# Altium integrated library Infineon_Power_Smart_Low-Side_&_High-Side_Switches.IntLib: 238 symbols (part 12 of 14)
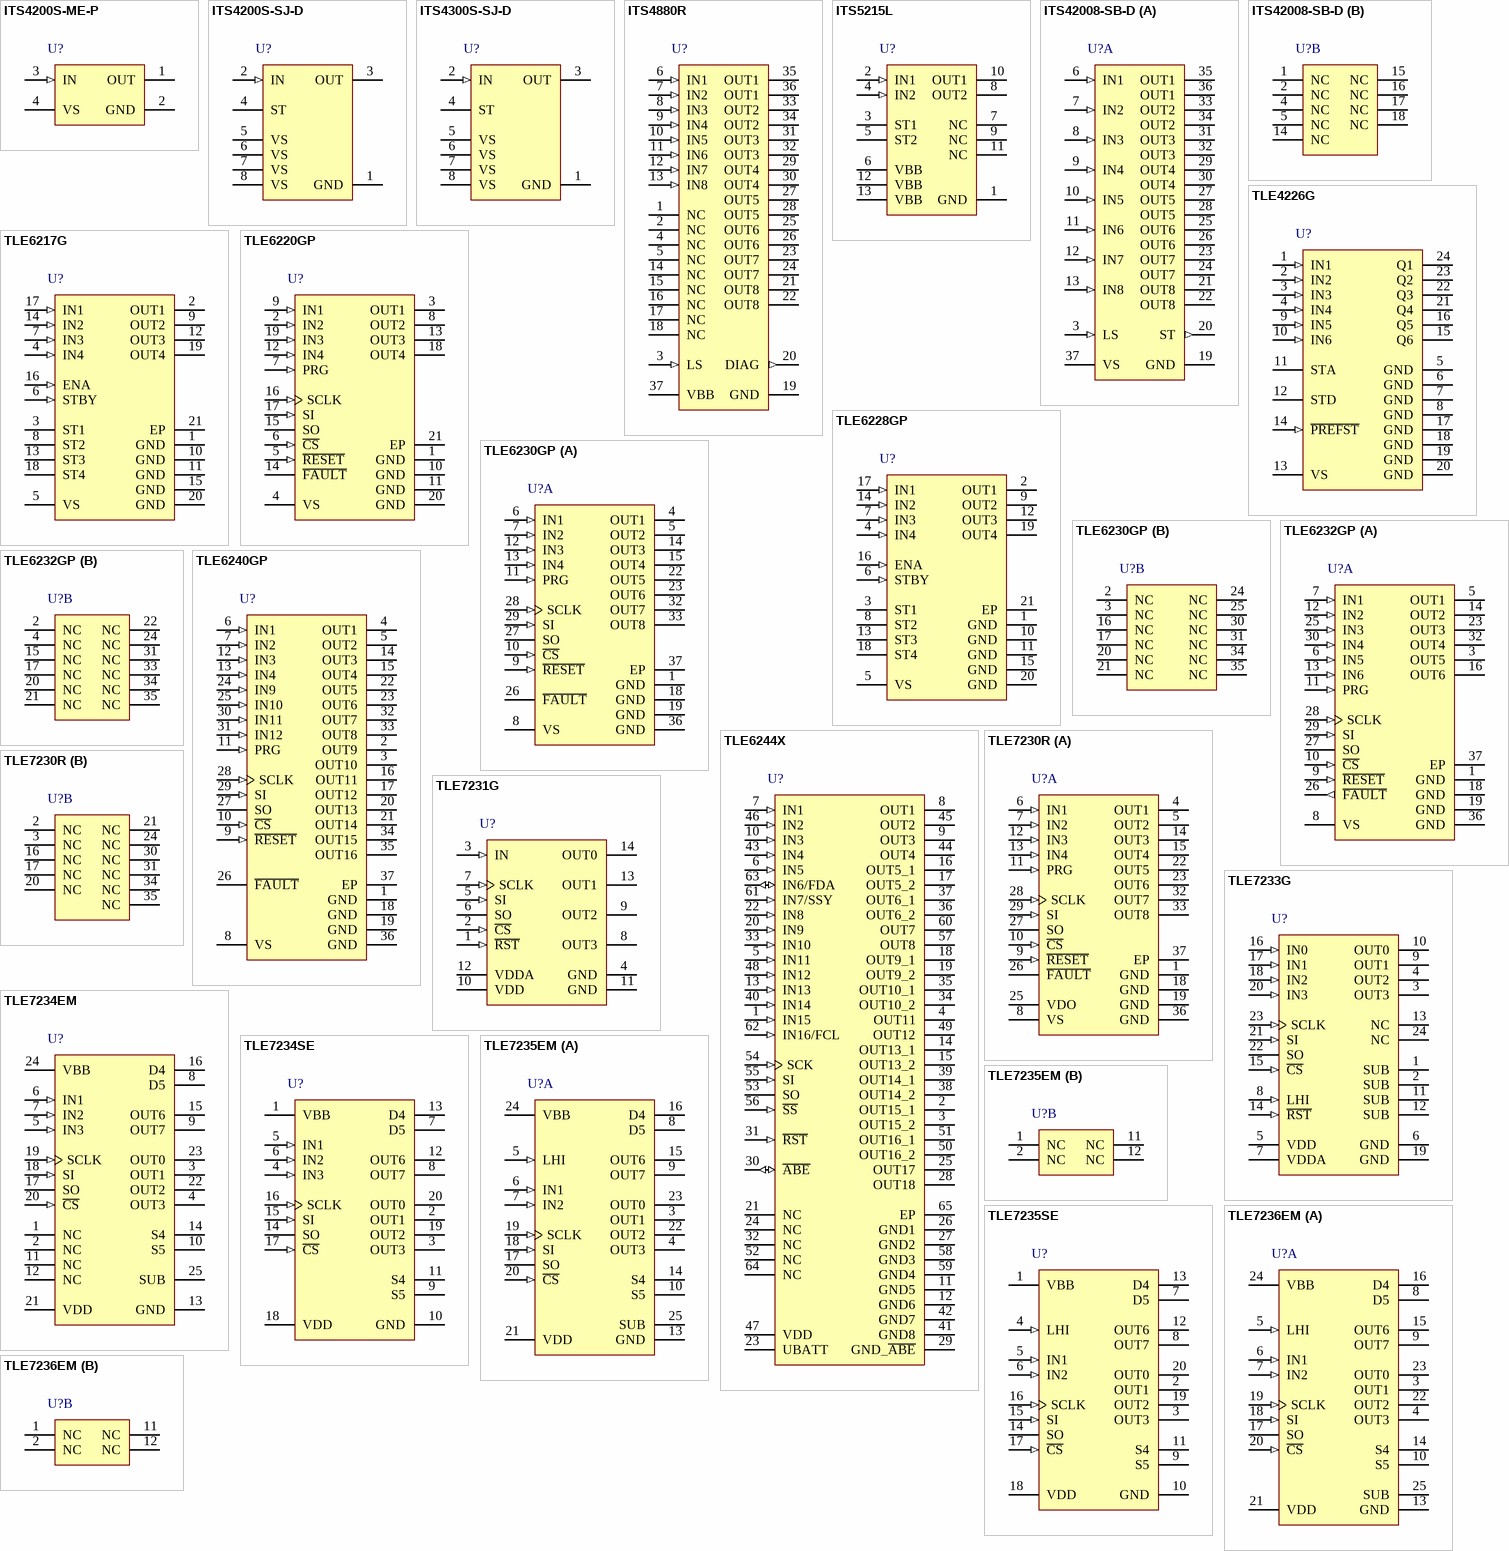
[diagram p18: symbols ITS4200S-ME-P to TLE7236EM]

## TLE4226G
designator U?
Intelligent Sixfold Low-Side Switch, -40 to 150 degC, P-DSO-24-3, Reel; Manufacturer: Infineon; PartNumber: TLE4226G; Green: FALSE; PackageVersion: Oct-04; PackageReference: P-DSO-24-3; PackageDescription: 24-Pin Plastic Dual Small Outline Package, 15.4 x 7.5 mm Body, 1.27 mm Pitch; Supplier 1: Mouser; Supplier Part Number 1: 726-TLE4226G; Supplier 2: Digi-Key; Supplier Part Number 2: TLE4226GTR-ND; Supplier 3: Digi-Key; Supplier Part Number 3: TLE4226GCT-ND; Supplier 4: Digi-Key; Supplier Part Number 4: TLE4226GDKR-ND; Halogen-free: FALSE; Packing: Reel; Mounting Technology: Surface Mount; ComponentLink1Description: Manufacturer URL; ComponentLink1URL: http://www.infineon.com/; ComponentLink2Description: Datasheet; ComponentLink2URL: http://www.infineon.com/dgdl/tle4226g.pdf?folderId=db3a304412b407950112b4268efc39e2&fileId=db3a304412b407950112b4268f6539e3&location=en.Products.Automotive_ICs.Smart_High-_and_Low-Side_Switches.FLEX_-_MultiChannel_LowSide_Switches__Powertrain___Safety_.DATASHEET.tle4226g.pdf; ComponentLink3Description: Package Specification; ComponentLink3URL: http://www.infineon.com/dgdl/TCA3727_DS_1004.pdf?folderId=db3a304412b407950112b408e8c90004&fileId=db3a304412b407950112b43810af6a23&sId=db3a30443d67b5ca013d7ca51dbb1bc1
footprint INF-P-DSO-24-3_N (SOP, 24-Leads, Body 15.4x7.5mm, Pitch 1.27mm, IPC Medium Density)
footprint INF-P-DSO-24-3_L (SOP, 24-Leads, Body 15.4x7.5mm, Pitch 1.27mm, IPC High Density)
footprint INF-P-DSO-24-3_M (SOP, 24-Leads, Body 15.4x7.5mm, Pitch 1.27mm, IPC Low Density)
pins: 1 IN1 (in) "Input switch 1, active high (50 mA)", 2 IN2 (in) "Input switch 2, active high (50 mA)", 3 IN3 (in) "Input switch 3, active high (50 mA)", 4 IN4 (in) "Input switch 4, active high (50 mA)", 5 GND (power) "Ground, cooling", 6 GND (power) "Ground, cooling", 7 GND (power) "Ground, cooling", 8 GND (power) "Ground, cooling", 9 IN5 (in) "Input switch 5, active high (50 mA)", 10 IN6 (in) "Input switch 6, active high (50 mA)", 11 STA (oc) "Status output analog", 12 STD (oc) "Status output digital (error: low)", 13 VS (power) "Supply voltage", 14 ~{PREFST} (in) "Preferred state input, active low", 15 Q6 (power) "Output switch 6 (500 mA)", 16 Q5 (power) "Output switch 5 (500 mA)", 17 GND (power) "Ground, cooling", 18 GND (power) "Ground, cooling", 19 GND (power) "Ground, cooling", 20 GND (power) "Ground, cooling", 21 Q4 (power) "Output switch 4 (500 mA)", 22 Q3 (power) "Output switch 3 (500 mA)", 23 Q2 (power) "Output switch 2 (500 mA)", 24 Q1 (power) "Output switch 1 (500 mA)"

## TLE6217G
designator U?
Smart Quad Channel Low Side Switch with Shutdown Over-Current Protection, -40 to 150 degC, PG-DSO-20-37, Reel, Green; Manufacturer: Infineon; PartNumber: TLE6217G; Channels: 4; Green: TRUE; Thermal class: Heatslug down; toff (max): 30 us; ton (max): 20.0 us; VDD: 5 V; VDS(CL): 53 V; VDS(CL) (min): 45 V; DatasheetVersion: Rev. 6.1; PackageReference: PG-DSO-20-37; PackageDescription: 20-Pin Plastic (Green) Dual Small Outline Package, 15.9 x 11 mm Body, 1.27 mm Pitch; Supplier 1: Mouser; Supplier Part Number 1: 726-TLE6217G; Supplier 2: Digi-Key; Supplier Part Number 2: TLE6217G-ND; Halogen-free: TRUE; Over-Current Protection: Shutdown; Packing: Reel; Mounting Technology: Surface Mount; ComponentLink1Description: Manufacturer URL; ComponentLink1URL: http://www.infineon.com/; ComponentLink2Description: Datasheet; ComponentLink2URL: http://www.infineon.com/dgdl/TLE6217G_DS_61%5B1%5D.pdf?folderId=db3a30431400ef68011421b54e2e0564&fileId=db3a30431be39b97011c2d5cb66078df&sId=db3a30433d68e984013d7f4be5296283; ComponentLink3Description: Package Specification; ComponentLink3URL: http://www.infineon.com/cms/packages/SMD_-_Surface_Mounted_Devices/P-PG-DSO/P-PG-DSO-20-10x_-12x_-13x_-16x_-33x_-34x_-37x_-48x_-50.html?__locale=en
footprint INF-PG-DSO-20-37_N (SOP, 20-Leads, Body 15.9x11mm, Pitch 1.27mm, Thermal Pad 15.84x6mm, IPC Medium Density)
footprint INF-PG-DSO-20-37_L (SOP, 20-Leads, Body 15.9x11mm, Pitch 1.27mm, Thermal Pad 15.84x6mm, IPC High Density)
footprint INF-PG-DSO-20-37_M (SOP, 20-Leads, Body 15.9x11mm, Pitch 1.27mm, Thermal Pad 15.84x6mm, IPC Low Density)
pins: 1 GND (power) "Ground", 2 OUT1 (power) "Power Output channel 1", 3 ST1 (oc) "Status Output channel 1", 4 IN4 (in) "Control Input channel 4", 5 VS (power) "Supply Voltage", 6 STBY (in) "Standby", 7 IN3 (in) "Control Input channel 3", 8 ST2 (oc) "Status Output channel 2", 9 OUT2 (power) "Power Output channel 2", 10 GND (power) "Ground", 11 GND (power) "Ground", 12 OUT3 (power) "Power Output channel 3", 13 ST3 (oc) "Status Output channel 3", 14 IN2 (in) "Control Input channel 2", 15 GND (power) "Ground Logic", 16 ENA (in) "Enable Input for all four channels", 17 IN1 (in) "Control Input channel 1", 18 ST4 (oc) "Status Output channel 4", 19 OUT4 (power) "Power Output channel 4", 20 GND (power) "Ground", 21 EP "Heatslug"

## TLE6220GP
designator U?
Smart Quad Low Side Switch with Limitation Over-Current Protection, -40 to 150 degC, PG-DSO-20-12, Reel, Green; Manufacturer: Infineon; PartNumber: TLE6220GP; Channels: 4; Green: TRUE; Thermal class: Heatslug down; toff (max): 10 us; VDD: 5 V; VDS(CL): 53 V; VDS(CL) (min): 45 V; DatasheetVersion: V2.2; PackageVersion: Nov-09; PackageReference: PG-DSO-20-12; PackageDescription: 20-Pin Plastic (Green) Dual Small Outline Package, 15.9 x 11 mm Body, 1.27 mm Pitch; Supplier 1: Mouser; Supplier Part Number 1: 726-TLE6220GP; Supplier 2: Digi-Key; Supplier Part Number 2: TLE6220GPINTR-ND; Supplier 3: Digi-Key; Supplier Part Number 3: TLE6220GPINCT-ND; Supplier 4: Digi-Key; Supplier Part Number 4: TLE6220GPINDKR-ND; Halogen-free: TRUE; Over-Current Protection: Limitation; Packing: Reel; ton (max): 10 us; Mounting Technology: Surface Mount; ComponentLink1Description: Manufacturer URL; ComponentLink1URL: http://www.infineon.com/; ComponentLink2Description: Datasheet; ComponentLink2URL: http://www.infineon.com/dgdl/TLE6220GP_V2_2.pdf?folderId=db3a30431b3e89eb011bb632994f065b&fileId=db3a30431b3e89eb011bb6330f97065c&location=en.Products.Automotive_ICs.Smart_High-_and_Low-Side_Switches.FLEX_-_MultiChannel_LowSide_Switches__Powertrain___Safety_.DATASHEET.TLE6220GP_V2_2.pdf; ComponentLink3Description: Package Specification; ComponentLink3URL: http://www.infineon.com/dgdl/TLE6220GP_V2_2.pdf?folderId=db3a30431b3e89eb011bb632994f065b&fileId=db3a30431b3e89eb011bb6330f97065c&sId=db3a30443d67b5ca013d7fcadb6a2beb
footprint INF-PG-DSO-20-12_N (SOP, 20-Leads, Body 15.9x11mm, Pitch 1.27mm, Thermal Pad 6X16.05mm, IPC Medium Density)
footprint INF-PG-DSO-20-12_L (SOP, 20-Leads, Body 15.9x11mm, Pitch 1.27mm, Thermal Pad 6X16.05mm, IPC High Density)
footprint INF-PG-DSO-20-12_M (SOP, 20-Leads, Body 15.9x11mm, Pitch 1.27mm, Thermal Pad 6X16.05mm, IPC Low Density)
pins: 1 GND (power) "Ground", 2 IN2 (in) "Input Channel 2", 3 OUT1 (power) "Power Output Channel 1", 4 VS (power) "Supply Voltage", 5 ~{RESET} (in) "Reset Input", 6 ~{CS} (in) "SPI Chip Select", 7 PRG (in) "Program Input", 8 OUT2 (power) "Power Output Channel 1", 9 IN1 (in) "Input Channel 1", 10 GND (power) "Ground", 11 GND (power) "Ground", 12 IN4 (in) "Input Channel 4", 13 OUT3 (power) "Power Output Channel 3", 14 ~{FAULT} (oc) "Fault Output", 15 SO (hiz) "SPI Signal Out", 16 SCLK (in) "SPI Clock", 17 SI (in) "SPI Signal In", 18 OUT4 (power) "Power Output Channel 4", 19 IN3 (in) "Input Channel 3", 20 GND (power) "Ground", 21 EP

## TLE6228GP
designator U?
Smart Quad Channel Low Side Switch with Shutdown Over-Current Protection, -40 to 150 degC, PG-DSO-20-65, Reel, Green; Manufacturer: Infineon; PartNumber: TLE6228GP; Channels: 4; Green: TRUE; Thermal class: Heatslug down; toff (max): 60 us; ton (max): 50 us; VDD: 4.8 to 32 V; VDS(CL): 50 V; VDS(CL) (min): 45 V; DatasheetVersion: V4.1; PackageVersion: Oct-12; PackageReference: PG-DSO-20-65; PackageDescription: 20-Pin Plastic (Green) Dual Small Outline Package, 15.9 x 11 mm Body, 1.27 mm Pitch; Supplier 1: Mouser; Supplier Part Number 1: 726-TLE6228GP; Supplier 2: Digi-Key; Supplier Part Number 2: TLE6228GPTR-ND; Supplier 3: Digi-Key; Supplier Part Number 3: TLE6228GPCT-ND; Supplier 4: Digi-Key; Supplier Part Number 4: TLE6228GPDKR-ND; Halogen-free: TRUE; Over-Current Protection: Shutdown; Packing: Reel; Mounting Technology: Surface Mount; ComponentLink1Description: Manufacturer URL; ComponentLink1URL: http://www.infineon.com/; ComponentLink2Description: Datasheet; ComponentLink2URL: http://www.infineon.com/dgdl/Data-sheet-TLE6228GP-V4_1.pdf?folderId=db3a304412b407950112b426653938de&fileId=db3a304412b407950112b42665a138df&location=en.Products.Automotive_ICs.Smart_High-_and_Low-Side_Switches.FLEX_-_MultiChannel_LowSide_Switches__Powertrain___Safety_.DATASHEET.Data-sheet-TLE6228GP-V4_1.pdf; ComponentLink3Description: Package Specification; ComponentLink3URL: http://www.infineon.com/dgdl/TLE8209-4SA_DS_11_2.pdf?folderId=db3a30431b3e89eb011bb632994f065b&fileId=db3a30433a747525013ac00f5f6d54f1&location=en.Products.Automotive_ICs.Powertrain_ICs.Powertrain_H-Bridges_for_Electronic_Throttle_Control.DATASHEET.TLE8209-4SA_DS_11_2.pdf
footprint INF-PG-DSO-20-65_N (SOP, 20-Leads, Body 15.9x11mm, Pitch 1.27mm, Thermal Pad 16.05x6mm, IPC Medium Density)
footprint INF-PG-DSO-20-65_L (SOP, 20-Leads, Body 15.9x11mm, Pitch 1.27mm, Thermal Pad 16.05x6mm, IPC High Density)
footprint INF-PG-DSO-20-65_M (SOP, 20-Leads, Body 15.9x11mm, Pitch 1.27mm, Thermal Pad 16.05x6mm, IPC Low Density)
pins: 1 GND (power) "Ground", 2 OUT1 (power) "Power Output channel 1", 3 ST1 (oc) "Status Output channel 1", 4 IN4 (in) "Control Input channel 4", 5 VS (power) "Supply Voltage", 6 STBY (in) "Standby", 7 IN3 (in) "Control Input channel 3", 8 ST2 (oc) "Status Output channel 2", 9 OUT2 (power) "Power Output channel 2", 10 GND (power) "Ground", 11 GND (power) "Ground", 12 OUT3 (power) "Power Output channel 3", 13 ST3 (oc) "Status Output channel 3", 14 IN2 (in) "Control Input channel 2", 15 GND (power) "Ground Logic", 16 ENA (in) "Enable Input for all four channels", 17 IN1 (in) "Control Input channel 1", 18 ST4 (oc) "Status Output channel 4", 19 OUT4 (power) "Power Output channel 4", 20 GND (power) "Ground", 21 EP (power) "Heat slug internally connected to ground pins"

## TLE6230GP
designator U?
Smart Octal Low Side Switch with Limitation Over-Current Protection, -40 to 150 degC, PG-DSO-36-26, Reel, Green; Manufacturer: Infineon; PartNumber: TLE6230GP; Channels: 8; Green: TRUE; Thermal class: Heatslug down; toff (max): 10 us; ton (max): 12 us; VDD: 5 V; VDS(CL): 50 V; VDS(CL) (min): 40 V; DatasheetVersion: V2.3; PackageVersion: Aug-09; PackageReference: PG-DSO-36-26; PackageDescription: 36-Pin Plastic (Green) Dual Small Outline Package, 15.9 x 11 mm Body, 0.65 mm Pitch; Supplier 1: Mouser; Supplier Part Number 1: 726-TLE6230GP; Supplier 2: Newark; Supplier Part Number 2: 47W3783; Supplier 3: Farnell; Supplier Part Number 3: 2215485; Supplier 4: Digi-Key; Supplier Part Number 4: TLE6230GPTR-ND; Supplier 5: Digi-Key; Supplier Part Number 5: TLE6230GPCT-ND; Supplier 6: Digi-Key; Supplier Part Number 6: TLE6230GPDKR-ND; Halogen-free: TRUE; Over-Current Protection: Limitation; Packing: Reel; Mounting Technology: Surface Mount; ComponentLink1Description: Manufacturer URL; ComponentLink1URL: http://www.infineon.com/; ComponentLink2Description: Datasheet; ComponentLink2URL: http://www.infineon.com/dgdl/TLE6230GP-v2_3-G%26R.pdf?folderId=db3a304412b407950112b426947c39eb&fileId=db3a304412b407950112b42694f239ec&sId=db3a30443d67b5ca013d7da74d122313; ComponentLink3Description: Package Specification; ComponentLink3URL: http://www.infineon.com/dgdl/ITS4880R_DS_11.pdf?folderId=db3a304412b407950112b408e8c90004&fileId=db3a304412b407950112b4295fb340cf&sId=db3a30433db6f09f013dc85930135028
footprint INF-PG-DSO-36-26_N (SOP, 36-Leads, Body 15.9x11mm, Pitch 0.65mm, Thermal Pad 16x6mm, IPC Medium Density)
footprint INF-PG-DSO-36-26_L (SOP, 36-Leads, Body 15.9x11mm, Pitch 0.65mm, Thermal Pad 16x6mm, IPC High Density)
footprint INF-PG-DSO-36-26_M (SOP, 36-Leads, Body 15.9x11mm, Pitch 0.65mm, Thermal Pad 16x6mm, IPC Low Density)
part A pins: 1 GND (power) "Ground", 4 OUT1 (power) "Power Output Channel 1", 5 OUT2 (power) "Power Output Channel 2", 6 IN1 (in) "Input Channel 1", 7 IN2 (in) "Input Channel 2", 8 VS (power) "Supply Voltage", 9 ~{RESET} (in) "Reset", 10 ~{CS} (in) "Chip Select", 11 PRG (in) "Program (inputs high or low-active)", 12 IN3 (in) "Input Channel 3", 13 IN4 (in) "Input Channel 4", 14 OUT3 (power) "Power Output Channel 3", 15 OUT4 (power) "Power Output Channel 4", 18 GND (power) "Ground", 19 GND (power) "Ground", 22 OUT5 (power) "Power Output Channel 5", 23 OUT6 (power) "Power Output Channel 6", 26 ~{FAULT} (oc) "General Fault Flag", 27 SO (hiz) "Serial Data Output", 28 SCLK (in) "Serial Clock", 29 SI (in) "Serial Data Input", 32 OUT7 (power) "Power Output Channel 7", 33 OUT8 (power) "Power Output Channel 8", 36 GND (power) "Ground", 37 EP (power)
part B pins: 2 NC "not connected", 3 NC "not connected", 16 NC "not connected", 17 NC "not connected", 20 NC "not connected", 21 NC "not connected", 24 NC "not connected", 25 NC "not connected", 30 NC "not connected", 31 NC "not connected", 34 NC "not connected", 35 NC "not connected"

## TLE6232GP
designator U?
Smart 6 Channel Low Side Switch with Limitation Over-Current Protection, -40 to 150 degC, PG-DSO-36-26, Reel, Green; Manufacturer: Infineon; PartNumber: TLE6232GP; Channels: 6; Green: TRUE; Thermal class: Heatslug down; toff (max): 10 us; VDD: 5 V; VDS(CL): 53 V; VDS(CL) (min): 45 V; DatasheetVersion: V2.3; PackageVersion: Aug-09; PackageReference: PG-DSO-36-26; PackageDescription: 36-Pin Plastic (Green) Dual Small Outline Package, 15.9 x 11 mm Body, 0.65 mm Pitch; Supplier 1: Mouser; Supplier Part Number 1: 726-TLE6232GP; Supplier 2: Digi-Key; Supplier Part Number 2: TLE6232GPTR-ND; Supplier 3: Digi-Key; Supplier Part Number 3: TLE6232GPCT-ND; Supplier 4: Digi-Key; Supplier Part Number 4: TLE6232GPDKR-ND; Halogen-free: TRUE; Over-Current Protection: Limitation; Packing: Reel; ton (max): 10 us; Mounting Technology: Surface Mount; ComponentLink1Description: Manufacturer URL; ComponentLink1URL: http://www.infineon.com/; ComponentLink2Description: Datasheet; ComponentLink2URL: http://www.infineon.com/dgdl/TLE6232GP_V2_3.pdf?folderId=db3a30431b3e89eb011bb632994f065b&fileId=db3a30431b3e89eb011bb639c9d00671&sId=db3a30433d68e984013d7f97401f734b; ComponentLink3Description: Package Specification; ComponentLink3URL: http://www.infineon.com/dgdl/ITS4880R_DS_11.pdf?folderId=db3a304412b407950112b408e8c90004&fileId=db3a304412b407950112b4295fb340cf&sId=db3a30433db6f09f013dc85930135028
footprint INF-PG-DSO-36-26_N (SOP, 36-Leads, Body 15.9x11mm, Pitch 0.65mm, Thermal Pad 16x6mm, IPC Medium Density)
footprint INF-PG-DSO-36-26_L (SOP, 36-Leads, Body 15.9x11mm, Pitch 0.65mm, Thermal Pad 16x6mm, IPC High Density)
footprint INF-PG-DSO-36-26_M (SOP, 36-Leads, Body 15.9x11mm, Pitch 0.65mm, Thermal Pad 16x6mm, IPC Low Density)
part A pins: 1 GND (power) "Ground", 3 OUT5 (power) "Power Output Channel 5", 5 OUT1 (power) "Power Output Channel 1", 6 IN5 (in) "Input Channel 5", 7 IN1 (in) "Input Channel 1", 8 VS (power) "Supply Voltage", 9 ~{RESET} (in) "Reset", 10 ~{CS} (in) "Slave Select", 11 PRG (in) "Program (inputs high or low-active)", 12 IN2 (in) "Input Channel 2", 13 IN6 (in) "Input Channel 6", 14 OUT2 (power) "Power Output Channel 2", 16 OUT6 (power) "Power Output Channel 6", 18 GND (power) "Ground", 19 GND (power) "Ground", 23 OUT3 (power) "Power Output Channel 3", 25 IN3 (in) "Input Channel 3", 26 ~{FAULT} (out) "General Fault Flag", 27 SO (hiz) "Serial Data Output", 28 SCLK (in) "Serial Clock", 29 SI (in) "Serial Data Input", 30 IN4 (in) "Input Channel 4", 32 OUT4 (power) "Power Output Channel 4", 36 GND (power) "Ground", 37 EP (power)
part B pins: 2 NC "not connected", 4 NC "not connected", 15 NC "not connected", 17 NC "not connected", 20 NC "not connected", 21 NC "not connected", 22 NC "not connected", 24 NC "not connected", 31 NC "not connected", 33 NC "not connected", 34 NC "not connected", 35 NC "not connected"

## TLE6240GP
designator U?
Smart 16 Channel Low Side Switch coreFLEX with Limitation Over-Current Protection, -40 to 150 degC, PG-DSO-36-26, Reel, Green; Manufacturer: Infineon; PartNumber: TLE6240GP; Channels: 16; Green: TRUE; Thermal class: Heatslug down; toff (max): 12 us; VDD: 5 V; VDS(CL): 50 V; VDS(CL) (min): 45 V; DatasheetVersion: Rev.3.3; PackageVersion: Aug-09; PackageReference: PG-DSO-36-26; PackageDescription: 36-Pin Plastic (Green) Dual Small Outline Package, 15.9 x 11 mm Body, 0.65 mm Pitch; Supplier 1: Mouser; Supplier Part Number 1: 726-TLE6240GP; Supplier 2: Digi-Key; Supplier Part Number 2: TLE6240GP-ND; Halogen-free: TRUE; Over-Current Protection: Limitation; Packing: Reel; ton (max): 12 us; Mounting Technology: Surface Mount; ComponentLink1Description: Manufacturer URL; ComponentLink1URL: http://www.infineon.com/; ComponentLink2Description: Datasheet; ComponentLink2URL: http://www.infineon.com/dgdl/TLE6240GP_ds_v3+3.pdf?folderId=db3a304412b407950112b42696e439f0&fileId=db3a304412b407950112b426974b39f1&sId=db3a30443d67b5ca013d7eac83622b15; ComponentLink3Description: Package Specification; ComponentLink3URL: http://www.infineon.com/dgdl/ITS4880R_DS_11.pdf?folderId=db3a304412b407950112b408e8c90004&fileId=db3a304412b407950112b4295fb340cf&sId=db3a30433db6f09f013dc85930135028
footprint INF-PG-DSO-36-26_N (SOP, 36-Leads, Body 15.9x11mm, Pitch 0.65mm, Thermal Pad 16x6mm, IPC Medium Density)
footprint INF-PG-DSO-36-26_L (SOP, 36-Leads, Body 15.9x11mm, Pitch 0.65mm, Thermal Pad 16x6mm, IPC High Density)
footprint INF-PG-DSO-36-26_M (SOP, 36-Leads, Body 15.9x11mm, Pitch 0.65mm, Thermal Pad 16x6mm, IPC Low Density)
pins: 1 GND (power) "Ground", 2 OUT9 (power) "Power Output Channel 9", 3 OUT10 (power) "Power Output Channel 10", 4 OUT1 (power) "Power Output Channel 1", 5 OUT2 (power) "Power Output Channel 2", 6 IN1 (in) "Input Channel 1", 7 IN2 (in) "Input Channel 2", 8 VS (power) "Supply Voltage", 9 ~{RESET} (in) "Reset", 10 ~{CS} (in) "Chip Select", 11 PRG (in) "Program (inputs high or low-active)", 12 IN3 (in) "Input Channel 3", 13 IN4 (in) "Input Channel 4", 14 OUT3 (power) "Power Output Channel 3", 15 OUT4 (power) "Power Output Channel 4", 16 OUT11 (power) "Power Output Channel 11", 17 OUT12 (power) "Power Output Channel 12", 18 GND (power) "Ground", 19 GND (power) "Ground", 20 OUT13 (power) "Power Output Channel 13", 21 OUT14 (power) "Power Output Channel 14", 22 OUT5 (power) "Power Output Channel 5", 23 OUT6 (power) "Power Output Channel 6", 24 IN9 (in) "Input Channel 9", 25 IN10 (in) "Input Channel 10", 26 ~{FAULT} (oc) "General Fault Flag", 27 SO (hiz) "Serial Data Output", 28 SCLK (in) "Serial Clock", 29 SI (in) "Serial Data Input", 30 IN11 (in) "Input Channel 11", 31 IN12 (in) "Input Channel 12", 32 OUT7 (power) "Power Output Channel 7", 33 OUT8 (power) "Power Output Channel 8", 34 OUT15 (power) "Power Output Channel 15", 35 OUT16 (power) "Power Output Channel 16", 36 GND (power) "Ground", 37 EP (power)

## TLE6244X
designator U?
18 Channel Smart Low Side Switch ASSP for Powertrain with Selectable Over-Current Protection, -40 to 150 degC, PG-MQFP-64-10, Reel, Green; Manufacturer: Infineon; PartNumber: TLE6244X; Channels: 18; Green: TRUE; Thermal class: Heatslug down; toff (max): 10 us; VDD: 5 V; VDS(CL): 45 to 70 V; VDS(CL) (min): 40 to 64 V; DatasheetVersion: V7; PackageVersion: Jun-07; PackageReference: PG-MQFP-64-10; PackageDescription: 64-Pin Plastic (Green) Metric Quad Flat Package, 14 x 14 mm Body, 0.65 mm Pitch; Supplier 1: Mouser; Supplier Part Number 1: 726-TLE6244X; Supplier 2: Digi-Key; Supplier Part Number 2: TLE6244X-ND; Halogen-free: TRUE; Over-Current Protection: Selectable; Packing: Reel; ton (max): 10 us; Mounting Technology: Surface Mount; ComponentLink1Description: Manufacturer URL; ComponentLink1URL: http://www.infineon.com/; ComponentLink2Description: Datasheet; ComponentLink2URL: http://www.infineon.com/dgdl/TLE6244X_V7.pdf?folderId=db3a304412b407950112b426994e39f5&fileId=db3a304412b407950112b42699b639f6&location=en.Products.Automotive_ICs.Smart_High-_and_Low-Side_Switches.FLEX_-_MultiChannel_LowSide_Switches__Powertrain___Safety_.DATASHEET.TLE6244X_V7.pdf; ComponentLink3Description: Package Specification; ComponentLink3URL: http://www.infineon.com/dgdl/TLE6244X_V7.pdf?folderId=db3a304412b407950112b426994e39f5&fileId=db3a304412b407950112b42699b639f6&sId=db3a30443d67b5ca013d7fc9b5a32bea
footprint INF-PG-MQFP-64-10_N (QFP, 64-Leads, Body 14x14mm, Pitch 0.65mm, Thermal Pad 9.65x9.65mm, IPC Medium Density)
footprint INF-PG-MQFP-64-10_L (QFP, 64-Leads, Body 14x14mm, Pitch 0.65mm, Thermal Pad 9.65x9.65mm, IPC High Density)
footprint INF-PG-MQFP-64-10_M (QFP, 64-Leads, Body 14x14mm, Pitch 0.65mm, Thermal Pad 9.65x9.65mm, IPC Low Density)
pins: 1 IN15 (in) "Control inputs of the power stages Internal pull-up current sources (exception: IN8 with pull-down current source)", 2 OUT15_1 (power) "Outputs of the power switches Short-circuit proof Low side switches Limitation of the output voltage by zener diodes", 3 OUT15_2 (power) "Outputs of the power switches Short-circuit proof Low side switches Limitation of the output voltage by zener diodes", 4 OUT11 (power) "Outputs of the power switches Short-circuit proof Low side switches Limitation of the output voltage by zener diodes", 5 IN11 (in) "Control inputs of the power stages Internal pull-up current sources (exception: IN8 with pull-down current source)", 6 IN5 (in) "Control inputs of the power stages Internal pull-up current sources (exception: IN8 with pull-down current source)", 7 IN1 (in) "Control inputs of the power stages Internal pull-up current sources (exception: IN8 with pull-down current source)", 8 OUT1 (power) "Outputs of the power switches Short-circuit proof Low side switches Limitation of the output voltage by zener diodes", 9 OUT3 (power) "Outputs of the power switches Short-circuit proof Low side switches Limitation of the output voltage by zener diodes", 10 IN3 (in) "Control inputs of the power stages Internal pull-up current sources (exception: IN8 with pull-down current source)", 11 GND5 (power) "Ground pins Ground pins for the power stages (see 2.4) Ground reference of all logic signals is GND1/2", 12 GND6 (power) "Ground pins Ground pins for the power stages (see 2.4) Ground reference of all logic signals is GND1/2", 13 IN13 (in) "Control inputs of the power stages Internal pull-up current sources (exception: IN8 with pull-down current source)", 14 OUT13_1 (power) "Outputs of the power switches Short-circuit proof Low side switches Limitation of the output voltage by zener diodes", 15 OUT13_2 (power) "Outputs of the power switches Short-circuit proof Low side switches Limitation of the output voltage by zener diodes", 16 OUT5_1 (power) "Outputs of the power switches Short-circuit proof Low side switches Limitation of the output voltage by zener diodes", 17 OUT5_2 (power) "Outputs of the power switches Short-circuit proof Low side switches Limitation of the output voltage by zener diodes", 18 OUT9_1 (power) "Outputs of the power switches Short-circuit proof Low side switches Limitation of the output voltage by zener diodes", 19 OUT9_2 (power) "Outputs of the power switches Short-circuit proof Low side switches Limitation of the output voltage by zener diodes", 20 IN9 (in) "Control inputs of the power stages Internal pull-up current sources (exception: IN8 with pull-down current source)", 21 NC, 22 IN8 (in) "Control inputs of the power stages Internal pull-up current sources (exception: IN8 with pull-down current source)", 23 UBATT (power) "Supply voltage Ubatt Pin must not be left open but has to be connected either to UBatt or to VDD (e.g. in commercial vehicles)", 24 NC, 25 OUT17 (power) "Outputs of the power switches Short-circuit proof Low side switches Limitation of the output voltage by zener diodes", 26 GND1 (power) "Ground pins Ground pins for the power stages (see 2.4) Ground reference of all logic signals is GND1/2", 27 GND2 (power) "Ground pins Ground pins for the power stages (see 2.4) Ground reference of all logic signals is GND1/2", 28 OUT18 (power) "Outputs of the power switches Short-circuit proof Low side switches Limitation of the output voltage by zener diodes", 29 GND_~{ABE} (power) "Sense ground VDD-Monitoring", 30 ~{ABE} (io) "In-/Output VDD-Monitoring Active low Output pin for the VDD-Monitoring Input pin for the shut-off signal coming from the supervisor", 31 ~{RST} (in) "Reset Active low Locks all power switches regardless of their input signals (except OUT8) Clears the fault registers Resets the usec-bus interface registers", 32 NC, 33 IN10 (in) "Control inputs of the power stages Internal pull-up current sources (exception: IN8 with pull-down current source)", 34 OUT10_2 (power) "Outputs of the power switches Short-circuit proof Low side switches Limitation of the output voltage by zener diodes", 35 OUT10_1 (power) "Outputs of the power switches Short-circuit proof Low side switches Limitation of the output voltage by zener diodes", 36 OUT6_2 (power) "Outputs of the power switches Short-circuit proof Low side switches Limitation of the output voltage by zener diodes", 37 OUT6_1 (power) "Outputs of the power switches Short-circuit proof Low side switches Limitation of the output voltage by zener diodes", 38 OUT14_2 (power) "Outputs of the power switches Short-circuit proof Low side switches Limitation of the output voltage by zener diodes", 39 OUT14_1 (power) "Outputs of the power switches Short-circuit proof Low side switches Limitation of the output voltage by zener diodes", 40 IN14 (in) "Control inputs of the power stages Internal pull-up current sources (exception: IN8 with pull-down current source)", 41 GND8 (power) "Ground pins Ground pins for the power stages (see 2.4) Ground reference of all logic signals is GND1/2", 42 GND7 (power) "Ground pins Ground pins for the power stages (see 2.4) Ground reference of all logic signals is GND1/2", 43 IN4 (in) "Control inputs of the power stages Internal pull-up current sources (exception: IN8 with pull-down current source)", 44 OUT4 (power) "Outputs of the power switches Short-circuit proof Low side switches Limitation of the output voltage by zener diodes", 45 OUT2 (power) "Outputs of the power switches Short-circuit proof Low side switches Limitation of the output voltage by zener diodes", 46 IN2 (in) "Control inputs of the power stages Internal pull-up current sources (exception: IN8 with pull-down current source)", 47 VDD (power) "Supply voltage 5V", 48 IN12 (in) "Control inputs of the power stages Internal pull-up current sources (exception: IN8 with pull-down current source)", 49 OUT12 (power) "Outputs of the power switches Short-circuit proof Low side switches Limitation of the output voltage by zener diodes", 50 OUT16_2 (power) "Outputs of the power switches Short-circuit proof Low side switches Limitation of the output voltage by zener diodes", 51 OUT16_1 (power) "Outputs of the power switches Short-circuit proof Low side switches Limitation of the output voltage by zener diodes", 52 NC, 53 SO (hiz) "SPI Interface", 54 SCK (in) "SPI Interface", 55 SI (in) "SPI Interface", 56 ~{SS} (in) "SPI Interface", 57 OUT8 (power) "Outputs of the power switches Short-circuit proof Low side switches Limitation of the output voltage by zener diodes", 58 GND3 (power) "Ground pins Ground pins for the power stages (see 2.4) Ground reference of all logic signals is GND1/2", 59 GND4 (power) "Ground pins Ground pins for the power stages (see 2.4) Ground reference of all logic signals is GND1/2", 60 OUT7 (power) "Outputs of the power switches Short-circuit proof Low side switches Limitation of the output voltage by zener diodes", 61 IN7/SSY (in), 62 IN16/FCL (in), 63 IN6/FDA (io), 64 NC, 65 EP

## TLE7230R
designator U?
Smart Octal Low-Side Switch, 10 uA Quiescent Current, 4.5 to 5.5 V VDD, -40 to 150 degC, PG-DSO-36-47, Reel, Green; Manufacturer: Infineon; PartNumber: TLE7230R; Channels: 8; Cranking mode: FALSE; Daisy-chain capability: TRUE; ID nom: 500 mA; ID(lim) (min): 1 A; Open Load Detection: off; Open Load Disable Function: FALSE; Overcurrent limitation or shutdown: Selectable; PWM Inputs: 4; Quiescent Current (max): 10 uA; RDS (on) (max): 1.7 Ohm; RDS (on) (typ): 0.8 Ohm; SPI: 16 Bit; VDD: 4.5 - 5.5 V; VDS(CL): 48 - 60 V; DatasheetVersion: Rev. 3.4; PackageVersion: Jul-09; PackageReference: PG-DSO-36-47; PackageDescription: 36-Pin Plastic (Green) Dual Small Outline Package, 15.9 x 11 mm Body, 0.65 mm Pitch; Supplier 1: Mouser; Supplier Part Number 1: 726-TLE7230R; Supplier 2: Newark; Supplier Part Number 2: 47W3785; Supplier 3: Farnell; Supplier Part Number 3: 2215487; Supplier 4: Digi-Key; Supplier Part Number 4: TLE7230RTR-ND; Supplier 5: Digi-Key; Supplier Part Number 5: TLE7230RCT-ND; Supplier 6: Digi-Key; Supplier Part Number 6: TLE7230RDKR-ND; Green: TRUE; Halogen-free: TRUE; Limp Home Feature: FALSE; Packing: Reel; Short to GND detection: TRUE; Standby mode: TRUE; Undervoltage Shutdown: TRUE; Mounting Technology: Surface Mount; ComponentLink1Description: Manufacturer URL; ComponentLink1URL: http://www.infineon.com/; ComponentLink2Description: Datasheet; ComponentLink2URL: http://www.infineon.com/dgdl/TLE7230R_DataSheet_V3_4.pdf?folderId=db3a30431400ef68011421b54e2e0564&fileId=db3a30431ce5fb52011d298f77141b75&location=en.Products.Automotive_ICs.Smart_High-_and_Low-Side_Switches.SPIDER___SPI_Driver_for_enhanced_relay_control.DATASHEET.TLE7230R_DataSheet_V3_4.pdf; ComponentLink3Description: Package Specification; ComponentLink3URL: http://www.infineon.com/dgdl/TLE7230R_DataSheet_V3_4.pdf?folderId=db3a30431400ef68011421b54e2e0564&fileId=db3a30431ce5fb52011d298f77141b75&sId=db3a30433d68e984013d7ef71817623a
footprint INF-PG-DSO-36-47_N (SOP, 36-Leads, Body 15.9x11mm, Pitch 0.65mm, Thermal Pad 6X16mm, IPC Medium Density)
footprint INF-PG-DSO-36-47_L (SOP, 36-Leads, Body 15.9x11mm, Pitch 0.65mm, Thermal Pad 6X16mm, IPC High Density)
footprint INF-PG-DSO-36-47_M (SOP, 36-Leads, Body 15.9x11mm, Pitch 0.65mm, Thermal Pad 6X16mm, IPC Low Density)
part A pins: 1 GND (power) "Ground pins.", 4 OUT1 (power) "Drain pins of the 8 channels. Output pins to connect to loads.", 5 OUT2 (power) "Drain pins of the 8 channels. Output pins to connect to loads.", 6 IN1 (in) "Parallel Input Pins of the channels 1 to 3", 7 IN2 (in) "Parallel Input Pins of the channels 1 to 3", 8 VS (power) "Logic supply pin. This pin is used to supply the integrated circuitry.", 9 ~{RESET} (in) "If the reset pin is in a logic low state, it clears the SPI shift register and switches all outputs OFF. An internal pull-up structure is provided on chip.", 10 ~{CS} (in) "Chip Select of the Serial Peripheral Interface", 11 PRG (in) "Program pin. PRG = High (VS): Parallel inputs 1 to 4 are high active PRG = Low (GND): Parallel inputs 1 to 4 are low active. If the parallel input pins are not connected (independent of high or low activity) it is guaranteed (See Datasheet)", 12 IN3 (in) "Parallel Input Pins of the channels 1 to 3", 13 IN4 (in) "Mapable parallel Input Pin. Can be assigned to different outputs by SPI command. Default Output is OUT4", 14 OUT3 (power) "Drain pins of the 8 channels. Output pins to connect to loads.", 15 OUT4 (power) "Drain pins of the 8 channels. Output pins to connect to loads.", 18 GND (power) "Ground pins.", 19 GND (power) "Ground pins.", 22 OUT5 (power) "Drain pins of the 8 channels. Output pins to connect to loads.", 23 OUT6 (power) "Drain pins of the 8 channels. Output pins to connect to loads.", 25 VDO (power) "Supply pin of the Signal Output (SO) pin of the SPI interface . This pin can be used to vary the high-state output voltage of the SO pin.", 26 ~{FAULT} (oc) "There is a general fault pin (open drain) which shows a high to low transition as soon as an error occurs at any one of the eight channels. This fault indication can be used to generate a uC interrupt. Therefore a (See Datasheet)", 27 SO (hiz) "Signal Output of the Serial Peripheral Interface", 28 SCLK (in) "Clock Input of the Serial Peripheral Interface. The pin has an internal pull down structure", 29 SI (in) "Signal Input of the Serial Peripheral Interface. The pin has an internal pull down structure.", 32 OUT7 (power) "Drain pins of the 8 channels. Output pins to connect to loads.", 33 OUT8 (power) "Drain pins of the 8 channels. Output pins to connect to loads.", 36 GND (power) "Ground pins.", 37 EP (power)
part B pins: 2 NC "not connected", 3 NC "not connected", 16 NC "not connected", 17 NC "not connected", 20 NC "not connected", 21 NC "not connected", 24 NC "not connected", 30 NC "not connected", 31 NC "not connected", 34 NC "not connected", 35 NC "not connected"

## TLE7231G
designator U?
SPIDER-4 Channel Low Side Driver, 10 uA Quiescent Current, 3 to 5.5 V VDD, -40 to 150 degC, PG-DSO-14-1, Reel, Green; Manufacturer: Infineon; PartNumber: TLE7231G; Channels: 4; Cranking mode: FALSE; Daisy-chain capability: TRUE; ID nom: 320 mA; ID(lim) (min): 0.5 A; Open Load Detection: off; Overcurrent limitation or shutdown: Shutdown; PWM Inputs: 1; Quiescent Current (max): 10 uA; RDS (on) (max): 2.2 Ohm; RDS (on) (typ): 1 Ohm; SPI: 8 Bit; VDD: 3 - 5.5 V; VDS(CL): 41 - 52 V; DatasheetVersion: Rev. 1.1; PackageVersion: Apr-11; PackageReference: PG-DSO-14-1; PackageDescription: 14-Pin Plastic (Green) Dual Small Outline Package, 8.65 x 3.9 mm Body, 1.27 mm Pitch; Supplier 1: Mouser; Supplier Part Number 1: 726-TLE7231G; Supplier 2: Newark; Supplier Part Number 2: 47W3786; Supplier 3: Farnell; Supplier Part Number 3: 2215552; Supplier 4: Digi-Key; Supplier Part Number 4: TLE7231GTR-ND; Supplier 5: Digi-Key; Supplier Part Number 5: TLE7231GCT-ND; Supplier 6: Digi-Key; Supplier Part Number 6: TLE7231GDKR-ND; Green: TRUE; Halogen-free: TRUE; Limp Home Feature: FALSE; Open Load Disable Function: TRUE; Packing: Reel; Short to GND detection: TRUE; Standby mode: TRUE; Undervoltage Shutdown: TRUE; Mounting Technology: Surface Mount; ComponentLink1Description: Manufacturer URL; ComponentLink1URL: http://www.infineon.com/; ComponentLink2Description: Datasheet; ComponentLink2URL: http://www.infineon.com/dgdl/TLE7231G_DS_11.pdf?folderId=db3a30431400ef68011421b54e2e0564&fileId=db3a30431a47d73d011a489c9d5b00b8&location=en.Products.Automotive_ICs.Smart_High-_and_Low-Side_Switches.SPIDER___SPI_Driver_for_enhanced_relay_control.DATASHEET.TLE7231G_DS_11.pdf; ComponentLink3Description: Package Specification; ComponentLink3URL: http://www.infineon.com/dgdl/DCDC-Controller-IFX80471-Data-Sheet-V10-Infineon.pdf?folderId=db3a304314dca3890115039cf70d0bf0&fileId=db3a30432e398416012e487ec6e42599
footprint INF-PG-DSO-14-1_N (SOP, 14-Leads, Body 8.65x3.9mm, Pitch 1.27mm, IPC Medium Density)
footprint INF-PG-DSO-14-1_L (SOP, 14-Leads, Body 8.65x3.9mm, Pitch 1.27mm, IPC High Density)
footprint INF-PG-DSO-14-1_M (SOP, 14-Leads, Body 8.65x3.9mm, Pitch 1.27mm, IPC Low Density)
pins: 1 ~{RST} (in) "Reset input pin; Digital input 3.3 V or 5V. Low active", 2 ~{CS} (in) "SPI chip select; Digital input 3.3 V or 5V. Low active", 3 IN (in) "Control Input; Digital input 3.3 V or 5V. In case of not used keep open.", 4 GND (power) "Ground; common ground for digital, analog and power", 5 SI (in) "Serial data in; Digital input 3.3 V or 5V.", 6 SO (hiz) "Serial data out; Digital input 3.3 V or 5V.", 7 SCLK (in) "Serial clock; Digital input 3.3 V or 5V.", 8 OUT3 (power) "Output Channel 3; Drain of power transistor channel 3", 9 OUT2 (power) "Output Channel 2; Drain of power transistor channel 2", 10 VDD (power) "Digital Supply Voltage; Connected to 5V Voltage with Reverse protection Diode and Filter against EMC", 11 GND (power) "Ground; common ground for digital, analog and power", 12 VDDA (power) "Analog Supply Voltage", 13 OUT1 (power) "Output Channel 1; Drain of power transistor channel 1", 14 OUT0 (power) "Output Channel 0; Drain of power transistor channel 0"

## TLE7233G
designator U?
SPIDER-4 Channel Low Side Driver with Limp Home, 10 uA Quiescent Current, 3 to 5.5 V VDD, -40 to 150 degC, PG-SSOP-24-5, Reel, Green; Manufacturer: Infineon; PartNumber: TLE7233G; Channels: 4; Cranking mode: FALSE; Daisy-chain capability: TRUE; ID nom: 390 mA; ID(lim) (min): 0.5 A; Open Load Detection: off; Overcurrent limitation or shutdown: Shutdown; Quiescent Current (max): 10 uA; RDS (on) (max): 2.2 Ohm; RDS (on) (typ): 1 Ohm; SPI: 8 Bit; VDD: 3 - 5.5 V; VDS(CL): 41 - 52 V; DatasheetVersion: Rev. 1.1; PackageVersion: Apr-10; PackageReference: PG-SSOP-24-5; PackageDescription: 24-Pin Plastic (Green) Shrink Small Outline Package, 8.65 x 3.9 mm Body, 0.65 mm Pitch; Supplier 1: Mouser; Supplier Part Number 1: 726-TLE7233G; Supplier 2: Digi-Key; Supplier Part Number 2: TLE7233G-ND; Green: TRUE; Halogen-free: TRUE; Limp Home Feature: TRUE; Open Load Disable Function: TRUE; Packing: Reel; PWM Inputs: 4; Short to GND detection: TRUE; Standby mode: TRUE; Undervoltage Shutdown: TRUE; Mounting Technology: Surface Mount; ComponentLink1Description: Manufacturer URL; ComponentLink1URL: http://www.infineon.com/; ComponentLink2Description: Datasheet; ComponentLink2URL: http://www.infineon.com/dgdl/TLE7233G_DS_11.pdf?folderId=db3a30431400ef68011421b54e2e0564&fileId=db3a30431a47d73d011a489d603600bd&location=en.Products.Automotive_ICs.Smart_High-_and_Low-Side_Switches.SPIDER___SPI_Driver_for_enhanced_relay_control.DATASHEET.TLE7233G_DS_11.pdf; ComponentLink3Description: Package Specification; ComponentLink3URL: http://www.infineon.com/dgdl/PG-SSOP-24-5%2C-6%2C-7-Package_Overview.pdf?folderId=db3a304327b897500127f7a03f7d6554&fileId=db3a304327b89750012817aa493a1a04
footprint INF-PG-SSOP-24-5_N (SOP, 24-Leads, Body 8.65x3.9mm, Pitch 0.65mm, IPC Medium Density)
footprint INF-PG-SSOP-24-5_L (SOP, 24-Leads, Body 8.65x3.9mm, Pitch 0.65mm, IPC High Density)
footprint INF-PG-SSOP-24-5_M (SOP, 24-Leads, Body 8.65x3.9mm, Pitch 0.65mm, IPC Low Density)
pins: 1 SUB "Substrate; shorted to die pad, can be left not connected or used for thermal connection and shorted to ground", 2 SUB "Substrate; shorted to die pad, can be left not connected or used for thermal connection and shorted to ground", 3 OUT3 (power) "Output Channel 3; Drain of power transistor channel 3", 4 OUT2 (power) "Output Channel 2; Drain of power transistor channel 2", 5 VDD (power) "Digital Supply Voltage; Connected to 5V Voltage with Reverse protection Diode and Filter against EMC", 6 GND (power) "Ground; common ground for digital, analog and power", 7 VDDA (power) "Analog Supply Voltage", 8 LHI (in) "Limp Home; Digital input 3.3 V or 5V. In case of not used keep open.", 9 OUT1 (power) "Output Channel 1; Drain of power transistor channel 1", 10 OUT0 (power) "Output Channel 0; Drain of power transistor channel 0", 11 SUB "Substrate; shorted to die pad, can be left not connected or used for thermal connection and shorted to ground", 12 SUB "Substrate; shorted to die pad, can be left not connected or used for thermal connection and shorted to ground", 13 NC "Not connected; pin not used", 14 ~{RST} (in) "Reset input pin; Digital input 3.3 V or 5V. Low active", 15 ~{CS} (in) "SPI chip select; Digital input 3.3 V or 5V. Low active", 16 IN0 (in) "Control Input; Digital input 3.3 V or 5V. In case of not used keep open.", 17 IN1 (in) "Control Input; Digital input 3.3 V or 5V. In case of not used keep open.", 18 IN2 (in) "Control Input; Digital input 3.3 V or 5V. In case of not used keep open.", 19 GND (power) "Ground; common ground for digital, analog and power", 20 IN3 (in) "Control Input; Digital input 3.3 V or 5V. In case of not used keep open.", 21 SI (in) "Serial data in; Digital input 3.3 V or 5V.", 22 SO (hiz) "Serial data out; Digital input 3.3 V or 5V.", 23 SCLK (in) "Serial clock; Digital input 3.3 V or 5V.", 24 NC "Not connected; pin not used"

## TLE7234EM
designator U?
SPI Driver for Enhanced Relay Control, 10 uA Quiescent Current, 3 to 5.5 V VDD, -40 to 150 degC, PG-SSOP-24-4, Reel, Green; Manufacturer: Infineon; PartNumber: TLE7234EM; Channels: 8; Configurable channels: 2; Cranking mode: FALSE; Daisy-chain capability: TRUE; ID nom: 350 mA; ID(lim) (min): 0.5 A; Open Load Detection: off; Overcurrent limitation or shutdown: Shutdown; PWM Inputs: 3; Quiescent Current (max): 10 uA; RDS (on) (max): 1.9 Ohm; RDS (on) (typ): 0.9 Ohm; SPI: 8 Bit; VDD: 3 - 5.5 V; VDS(CL): 41 - 52 V; DatasheetVersion: Rev. 1.1; PackageVersion: Oct-12; PackageReference: PG-SSOP-24-4; PackageDescription: 24-Pin Plastic (Green) Shrink Small Outline Package, 8.65 x 3.9 mm Body, 0.65 mm Pitch; Supplier 1: Mouser; Supplier Part Number 1: 726-TLE7234EM; Supplier 2: Digi-Key; Supplier Part Number 2: TLE7234EM-ND; Green: TRUE; Halogen-free: TRUE; Limp Home Feature: FALSE; Open Load Disable Function: TRUE; Packing: Reel; Short to GND detection: TRUE; Standby mode: TRUE; Undervoltage Shutdown: TRUE; Mounting Technology: Surface Mount; ComponentLink1Description: Manufacturer URL; ComponentLink1URL: http://www.infineon.com/; ComponentLink2Description: Datasheet; ComponentLink2URL: http://www.infineon.com/dgdl/TLE7234EM_DS_11.pdf?folderId=db3a3043163797a6011667aa084c0e01&fileId=db3a3043284aacd8012887eedb5a7fea&location=en.Products.Automotive_ICs.Smart_High-_and_Low-Side_Switches.SPIDER___SPI_Driver_for_enhanced_relay_control.DATASHEET.TLE7234EM_DS_11.pdf; ComponentLink3Description: Package Specification; ComponentLink3URL: http://www.infineon.com/dgdl/TLE8088EM_DS_10.pdf?folderId=db3a30431b3e89eb011bb632994f065b&fileId=db3a30433a047ba0013a446e76be0bbb&location=en.Products.Automotive_ICs.Powertrain_ICs.Power_Interface_Products_for_Motorcycle_and_Small_Engines.DATASHEET.TLE8088EM_DS_10.pdf
footprint INF-PG-SSOP-24-4_N (SOP, 24-Leads, Body 8.65x3.9mm, Pitch 0.65mm, Thermal Pad 6.65x2.9mm, IPC Medium Density)
footprint INF-PG-SSOP-24-4_L (SOP, 24-Leads, Body 8.65x3.9mm, Pitch 0.65mm, Thermal Pad 6.65x2.9mm, IPC High Density)
footprint INF-PG-SSOP-24-4_M (SOP, 24-Leads, Body 8.65x3.9mm, Pitch 0.65mm, Thermal Pad 6.65x2.9mm, IPC Low Density)
pins: 1 NC "Not connected", 2 NC "Not connected", 3 OUT1 (power) "Source of high side power transistor channel 1", 4 OUT3 (power) "Source of high side power transistor channel 3", 5 IN3 (in) "Input multiplexer input 3 pin (pull down)", 6 IN1 (in) "Input multiplexer input 1 pin (pull down)", 7 IN2 (in) "Input multiplexer input 2 pin (pull down)", 8 D5 (power) "Drain of auto configuring power transitor 5", 9 OUT7 (power) "Source of low side power transistor channel 7", 10 S5 (power) "Source of auto configuring power transistor 5", 11 NC "Not connected", 12 NC "Not connected", 13 GND (power) "Digital, analog and power ground", 14 S4 (power) "Source of auto configuring power transistor 4", 15 OUT6 (power) "Source of low side power transistor channel 6", 16 D4 (power) "Drain of auto configuring power transitor 4", 17 SO (hiz) "Serial data out", 18 SI (in) "Serial data in", 19 SCLK (in) "Serial clock", 20 ~{CS} (in) "SPI Chip select (pull up)", 21 VDD (power) "Digital power supply", 22 OUT2 (power) "Source of high side power transistor channel 2", 23 OUT0 (power) "Source of high side power transistor channel 0", 24 VBB (power) "Power supply", 25 SUB "Substrate pins for thermal connection, To enable reverse polarity protection these pins must be floating."

## TLE7234SE
designator U?
SPI Driver for Enhanced Relay Control, 10 uA Quiescent Current, 3 to 5.5 V VDD, -40 to 150 degC, PG-DSO-20-45, Reel, Green; Manufacturer: Infineon; PartNumber: TLE7234SE; Channels: 8; Configurable channels: 2; Cranking mode: FALSE; Daisy-chain capability: TRUE; ID nom: 280 mA; ID(lim) (min): 0.5 A; Open Load Detection: off; Overcurrent limitation or shutdown: Shutdown; PWM Inputs: 3; Quiescent Current (max): 10 uA; RDS (on) (max): 1.8 Ohm; RDS (on) (typ): 0.85 Ohm; SPI: 8 Bit; VDD: 3 - 5.5 V; VDS(CL): 41 - 52 V; DatasheetVersion: Rev. 1.1; PackageVersion: Apr-11; PackageReference: PG-DSO-20-45; PackageDescription: 20-Pin Plastic (Green) Dual Small Outline Package, 12.7 x 7.5 mm Body, 1.27 mm Pitch; Supplier 1: Mouser; Supplier Part Number 1: 726-TLE7234SE; Supplier 2: Digi-Key; Supplier Part Number 2: TLE7234SE-ND; Green: TRUE; Halogen-free: TRUE; Limp Home Feature: FALSE; Open Load Disable Function: TRUE; Packing: Reel; Short to GND detection: TRUE; Standby mode: TRUE; Undervoltage Shutdown: TRUE; Mounting Technology: Surface Mount; ComponentLink1Description: Manufacturer URL; ComponentLink1URL: http://www.infineon.com/; ComponentLink2Description: Datasheet; ComponentLink2URL: http://www.infineon.com/dgdl/TLE7234SE_DS_11.pdf?folderId=db3a3043163797a6011667aa084c0e01&fileId=db3a3043284aacd80128887f4759000c&location=en.Products.Automotive_ICs.Smart_High-_and_Low-Side_Switches.SPIDER___SPI_Driver_for_enhanced_relay_control.DATASHEET.TLE7234SE_DS_11.pdf; ComponentLink3Description: Package Specification; ComponentLink3URL: http://www.infineon.com/dgdl/TLE7235SE_DS_11.pdf?folderId=db3a3043163797a6011667aa084c0e01&fileId=db3a3043284aacd8012887f07d4d7fef&sId=db3a30443d67b5ca013d7d7458a72269
footprint INF-PG-DSO-20-45_N (SOP, 20-Leads, Body 12.7x7.5mm, Pitch 1.27mm, IPC Medium Density)
footprint INF-PG-DSO-20-45_L (SOP, 20-Leads, Body 12.7x7.5mm, Pitch 1.27mm, IPC High Density)
footprint INF-PG-DSO-20-45_M (SOP, 20-Leads, Body 12.7x7.5mm, Pitch 1.27mm, IPC Low Density)
pins: 1 VBB (power) "Power supply", 2 OUT1 (power) "Source of high side power transistor channel 1", 3 OUT3 (power) "Source of high side power transistor channel 3", 4 IN3 (in) "Input multiplexer input 3 pin (pull down)", 5 IN1 (in) "Input multiplexer input 1 pin (pull down)", 6 IN2 (in) "Input multiplexer input 2 pin (pull down)", 7 D5 (power) "Drain of auto configuring power transistor 5", 8 OUT7 (power) "Drain of low side power transistor channel 7", 9 S5 (power) "Source of auto configuring power transistor 5", 10 GND (power) "Digital,analog and power ground", 11 S4 (power) "Source of auto configuring power transistor 4", 12 OUT6 (power) "Drain of low side power transistor channel 6", 13 D4 (power) "Drain of auto configuring power transistor 4", 14 SO (hiz) "Serial data out", 15 SI (in) "Serial data in", 16 SCLK (in) "Serial clock", 17 ~{CS} (in) "SPI Chip select (pull up)", 18 VDD (power) "Digital power supply", 19 OUT2 (power) "Source of high side power transistor channel 2", 20 OUT0 (power) "Source of high side power transistor channel 0"

## TLE7235EM
designator U?
SPI Driver for Enhanced Relay Control, 10 uA Quiescent Current, 3 to 5.5 V VDD, -40 to 150 degC, PG-SSOP-24-4, Reel, Green; Manufacturer: Infineon; PartNumber: TLE7235EM; Channels: 8; Configurable channels: 2; Cranking mode: FALSE; Daisy-chain capability: TRUE; ID nom: 350 mA; ID(lim) (min): 0.5 A; Open Load Detection: off; Overcurrent limitation or shutdown: Shutdown; Quiescent Current (max): 10 uA; RDS (on) (max): 1.9 Ohm; RDS (on) (typ): 0.9 Ohm; SPI: 8 Bit; VDD: 3 - 5.5 V; VDS(CL): 41 - 52 V; DatasheetVersion: Rev. 1.1; PackageVersion: Oct-12; PackageReference: PG-SSOP-24-4; PackageDescription: 24-Pin Plastic (Green) Shrink Small Outline Package, 8.65 x 3.9 mm Body, 0.65 mm Pitch; Supplier 1: Mouser; Supplier Part Number 1: 726-TLE7235EM; Supplier 2: Digi-Key; Supplier Part Number 2: TLE7235EM-ND; Green: TRUE; Halogen-free: TRUE; Limp Home Feature: TRUE; Open Load Disable Function: TRUE; Packing: Reel; PWM Inputs: 2; Short to GND detection: TRUE; Standby mode: TRUE; Undervoltage Shutdown: TRUE; Mounting Technology: Surface Mount; ComponentLink1Description: Manufacturer URL; ComponentLink1URL: http://www.infineon.com/; ComponentLink2Description: Datasheet; ComponentLink2URL: http://www.infineon.com/dgdl/TLE7235EM_DS_11.pdf?folderId=db3a3043163797a6011667aa084c0e01&fileId=db3a3043284aacd8012887f1c80c7ff4&location=en.Products.Automotive_ICs.Smart_High-_and_Low-Side_Switches.SPIDER___SPI_Driver_for_enhanced_relay_control.DATASHEET.TLE7235EM_DS_11.pdf; ComponentLink3Description: Package Specification; ComponentLink3URL: http://www.infineon.com/dgdl/TLE8088EM_DS_10.pdf?folderId=db3a30431b3e89eb011bb632994f065b&fileId=db3a30433a047ba0013a446e76be0bbb&location=en.Products.Automotive_ICs.Powertrain_ICs.Power_Interface_Products_for_Motorcycle_and_Small_Engines.DATASHEET.TLE8088EM_DS_10.pdf
footprint INF-PG-SSOP-24-4_N (SOP, 24-Leads, Body 8.65x3.9mm, Pitch 0.65mm, Thermal Pad 6.65x2.9mm, IPC Medium Density)
footprint INF-PG-SSOP-24-4_L (SOP, 24-Leads, Body 8.65x3.9mm, Pitch 0.65mm, Thermal Pad 6.65x2.9mm, IPC High Density)
footprint INF-PG-SSOP-24-4_M (SOP, 24-Leads, Body 8.65x3.9mm, Pitch 0.65mm, Thermal Pad 6.65x2.9mm, IPC Low Density)
part A pins: 3 OUT1 (power) "Source of high side power transistor channel 1", 4 OUT3 (power) "Source of high side power transistor channel 3", 5 LHI (in) "Limp home activation input pin (pull down)", 6 IN1 (in) "Input multiplexer input 1 pin (pull down)", 7 IN2 (in) "Input multiplexer input 2 pin (pull down)", 8 D5 (power) "Drain of auto configuring power transistor 5", 9 OUT7 (power) "Drain of low side power transistor channel 7", 10 S5 (power) "Source of auto configuring power transistor 5", 13 GND (power) "Digital, analog and power ground", 14 S4 (power) "Source of auto configuring power transistor 4", 15 OUT6 (power) "Drain of low side power transistor channel 6", 16 D4 (power) "Drain of auto configuring power transistor 4", 17 SO (hiz) "Serial data out", 18 SI (in) "Serial data in", 19 SCLK (in) "Serial clock", 20 ~{CS} (in) "SPI Chip select (pull up)", 21 VDD (power) "Digital power supply", 22 OUT2 (power) "Source of high side power transistor channel 2", 23 OUT0 (power) "Source of high side power transistor channel 0", 24 VBB (power) "Power supply", 25 SUB "Substrate pins for thermal connection. To enable reverse polarity protection these pins must be floating"
part B pins: 1 NC "not connected", 2 NC "not connected", 11 NC "not connected", 12 NC "not connected"